# EAGLE library part PIC18F4620 (library 000001)
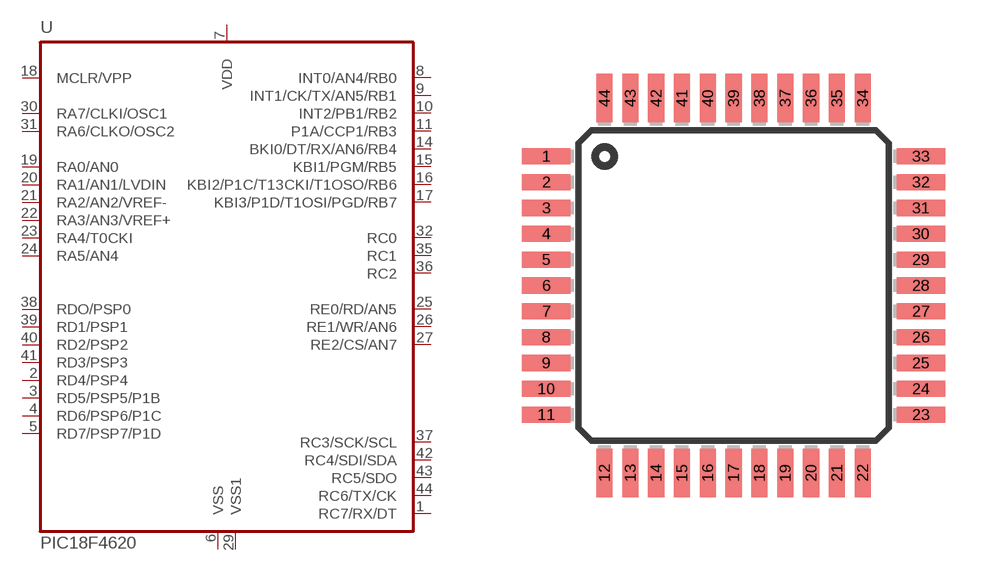
[diagram p34: symbol with the pads of TQFP44; footprint TQFP44]

Designator prefix -

## PIC18F4620  [TQFP44]
1  RC7/RX/DT
2  RD4/PSP4
3  RD5/PSP5/P1B
4  RD6/PSP6/P1C
5  RD7/PSP7/P1D
6  VSS  pwr
7  VDD  pwr
8  INT0/AN4/RB0
9  INT1/CK/TX/AN5/RB1
10  INT2/PB1/RB2
11  P1A/CCP1/RB3
14  BKI0/DT/RX/AN6/RB4
15  KBI1/PGM/RB5
16  KBI2/P1C/T13CKI/T1OSO/RB6
17  KBI3/P1D/T1OSI/PGD/RB7
18  MCLR/VPP  in
19  RA0/AN0
20  RA1/AN1/LVDIN
21  RA2/AN2/VREF-
22  RA3/AN3/VREF+
23  RA4/T0CKI
24  RA5/AN4
25  RE0/RD/AN5
26  RE1/WR/AN6
27  RE2/CS/AN7
29  VSS1  pwr
30  RA7/CLKI/OSC1
31  RA6/CLKO/OSC2
32  RC0
35  RC1
36  RC2
37  RC3/SCK/SCL
38  RDO/PSP0
39  RD1/PSP1
40  RD2/PSP2
41  RD3/PSP3
42  RC4/SDI/SDA
43  RC5/SDO
44  RC6/TX/CK

## Footprint TQFP44 (pad centres in mm)
Thin Quad Flat Pack package type TQ
smd 1.5 x 0.5: 1 -5.8,4; 2 -5.8,3.2; 3 -5.8,2.4; 4 -5.8,1.6; 5 -5.8,0.8; 6 -5.8,0; 7 -5.8,-0.8; 8 -5.8,-1.6; 9 -5.8,-2.4; 10 -5.8,-3.2; 11 -5.8,-4; 23 5.8,-4; 24 5.8,-3.2; 25 5.8,-2.4; 26 5.8,-1.6; 27 5.8,-0.8; 28 5.8,0; 29 5.8,0.8; 30 5.8,1.6; 31 5.8,2.4; 32 5.8,3.2; 33 5.8,4
smd 0.5 x 1.5: 12 -4,-5.8; 13 -3.2,-5.8; 14 -2.4,-5.8; 15 -1.6,-5.8; 16 -0.8,-5.8; 17 0,-5.8; 18 0.8,-5.8; 19 1.6,-5.8; 20 2.4,-5.8; 21 3.2,-5.8; 22 4,-5.8; 34 4,5.8; 35 3.2,5.8; 36 2.4,5.8; 37 1.6,5.8; 38 0.8,5.8; 39 0,5.8; 40 -0.8,5.8; 41 -1.6,5.8; 42 -2.4,5.8; 43 -3.2,5.8; 44 -4,5.8